# Altium schematic symbol library CanSat1_SchLib.SchLib: 19 symbols
Pins are listed as number, name and electrical type; pins without a type are passive.

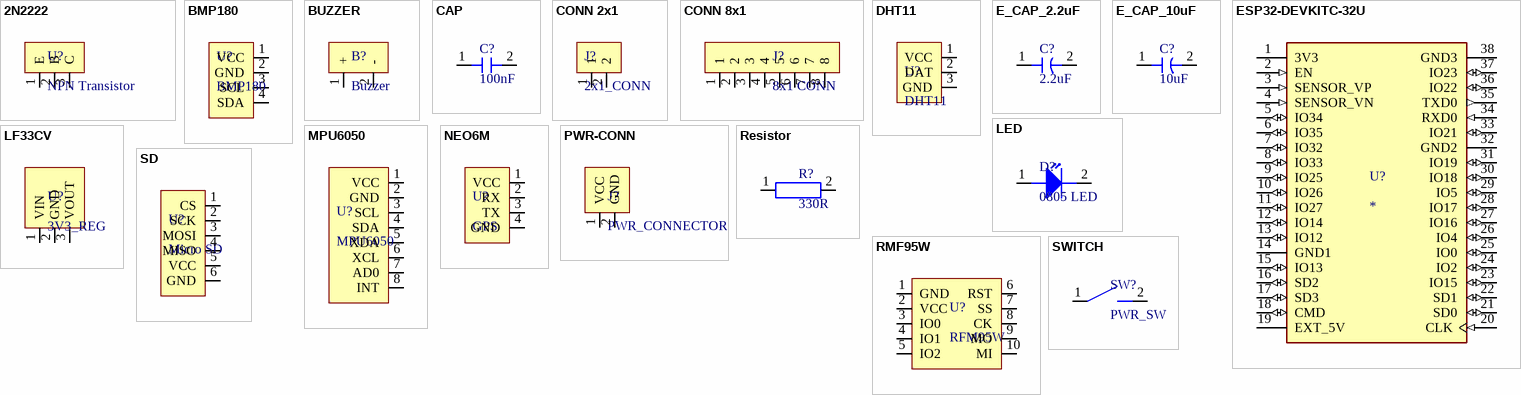
[diagram p0: symbols 2N2222 to SWITCH]

## 2N2222
designator U?, comment NPN Transistor
Through-hole NPN Transistor
footprint 2N2222A
pins: 1 E, 2 B, 3 C

## BMP180
designator U?
Bosch Pressure Sensor
footprint BMP180
pins: 1 VCC, 2 GND, 3 SCL, 4 SDA

## BUZZER
designator B?, comment Buzzer
Active buzzer
footprint BUZZER
pins: 1 +, 2 -

## CAP
designator C?, comment 100nF
Ceramic through-hole capacitor
footprint CERAMIC CAP
pins: 1 +, 2 -

## CONN 2x1
designator J?, comment 2x1_CONN
THT 2x1 2.54mm CONN
footprint CONN2x1_2.54mm
pins: 1, 2

## CONN 8x1
designator J?, comment 8x1 CONN
THT 8x1 2.54mm CONN
footprint CONN8x1_2.54
pins: 1, 2, 3, 4, 5, 6, 7, 8

## DHT11
designator U?
Humidity and temperature sensor
footprint DHT11
pins: 1 VCC, 2 DAT, 3 GND

## E_CAP_2.2uF
designator C?, comment 2.2uF
Throug-hole 2.2uF
footprint Electrolytic capacitor 2mm
pins: 1 +, 2 -

## E_CAP_10uF
designator C?, comment 10uF
Throug-hole 10uF
footprint Electrolytic capacitor 2mm
pins: 1 +, 2 -

## ESP32-DEVKITC-32U
designator U?
ESP32-WROOM-32UE series Transceiver; 802.11 b/g/n (Wi-Fi, WiFi, WLAN), BluetoothÂ® Smart Ready 4.x Dual Mode Evaluation Board; MF: Espressif Systems; MP: ESP32-DEVKITC-32U; SnapEDA_Link: https://www.snapeda.com/parts/ESP32-DEVKITC-32U/Espressif+Systems/view-part/?ref=snap; Availability: In Stock; Purchase-URL: https://pricing.snapeda.com/search/part/ESP32-DEVKITC-32U/?ref=eda; Check_prices: https://www.snapeda.com/parts/ESP32-DEVKITC-32U/Espressif+Systems/view-part/?ref=eda; Value: *; Package: None; Price: None
footprint MODULE_ESP32-DEVKITC-32U
pins: 1 3V3 (power), 2 EN (in), 3 SENSOR_VP (in), 4 SENSOR_VN (in), 5 IO34 (io), 6 IO35 (io), 7 IO32 (io), 8 IO33 (io), 9 IO25 (io), 10 IO26 (io), 11 IO27 (io), 12 IO14 (io), 13 IO12 (io), 14 GND1 (power), 15 IO13 (io), 16 SD2 (io), 17 SD3 (io), 18 CMD (io), 19 EXT_5V (power), 20 CLK (in), 21 SD0 (io), 22 SD1 (io), 23 IO15 (io), 24 IO2 (io), 25 IO0 (io), 26 IO4 (io), 27 IO16 (io), 28 IO17 (io), 29 IO5 (io), 30 IO18 (io), 31 IO19 (io), 32 GND2 (power), 33 IO21 (io), 34 RXD0 (in), 35 TXD0 (out), 36 IO22 (io), 37 IO23 (io), 38 GND3 (power)

## LED
designator D?, comment 0805 LED
Through-hole LED
footprint 3mm_LED
pins: 1 A, 2 K

## LF33CV
designator U?, comment 3V3_REG
Through-hole 3.3V regulator
footprint LF33CV
pins: 1 VIN, 2 GND, 3 VOUT

## MPU6050
designator U?
6DOF IMU sensor
footprint MPU6050 (6DOF IMU)
pins: 1 VCC, 2 GND, 3 SCL, 4 SDA, 5 XDA, 6 XCL, 7 AD0, 8 INT

## NEO6M
designator U?, comment GPS
UART GPS
pins: 1 VCC, 2 RX, 3 TX, 4 GND

## PWR-CONN
designator J?, comment PWR_CONNECTOR
THT Connector
footprint BATT
pins: 1 VCC, 2 GND

## Resistor
designator R?, comment 330R
Through-hole resistor
footprint THT RESISTOR
pins: 1, 2

## RMF95W
designator U?, comment RFM95W
915 MHz LoRa Transceiver
footprint Bluee LoRa
pins: 1 GND, 2 VCC, 3 IO0, 4 IO1, 5 IO2, 6 RST, 7 SS, 8 CK, 9 MO, 10 MI

## SD
designator U?, comment Micro SD
Micro SD Card reader
pins: 1 CS, 2 SCK, 3 MOSI, 4 MISO, 5 VCC, 6 GND

## SWITCH
designator SW?, comment PWR_SW
Mechanical through-hole switch
footprint PWR-SW (Mechanical power switch)
pins: 1 +, 2 +